# Altium footprint library footprints.PcbLib: 160 footprints (part 10 of 10)
Each footprint in its own frame and in the unit in brackets; x right, y up, seen from the top. Pads: shape width x height; smd on the part's side, far side on the other; paste and mask are expansions set on the pad; w line width, h text height; cw(c..) or ccw(c..) is an arc to the next point about the centre after c.
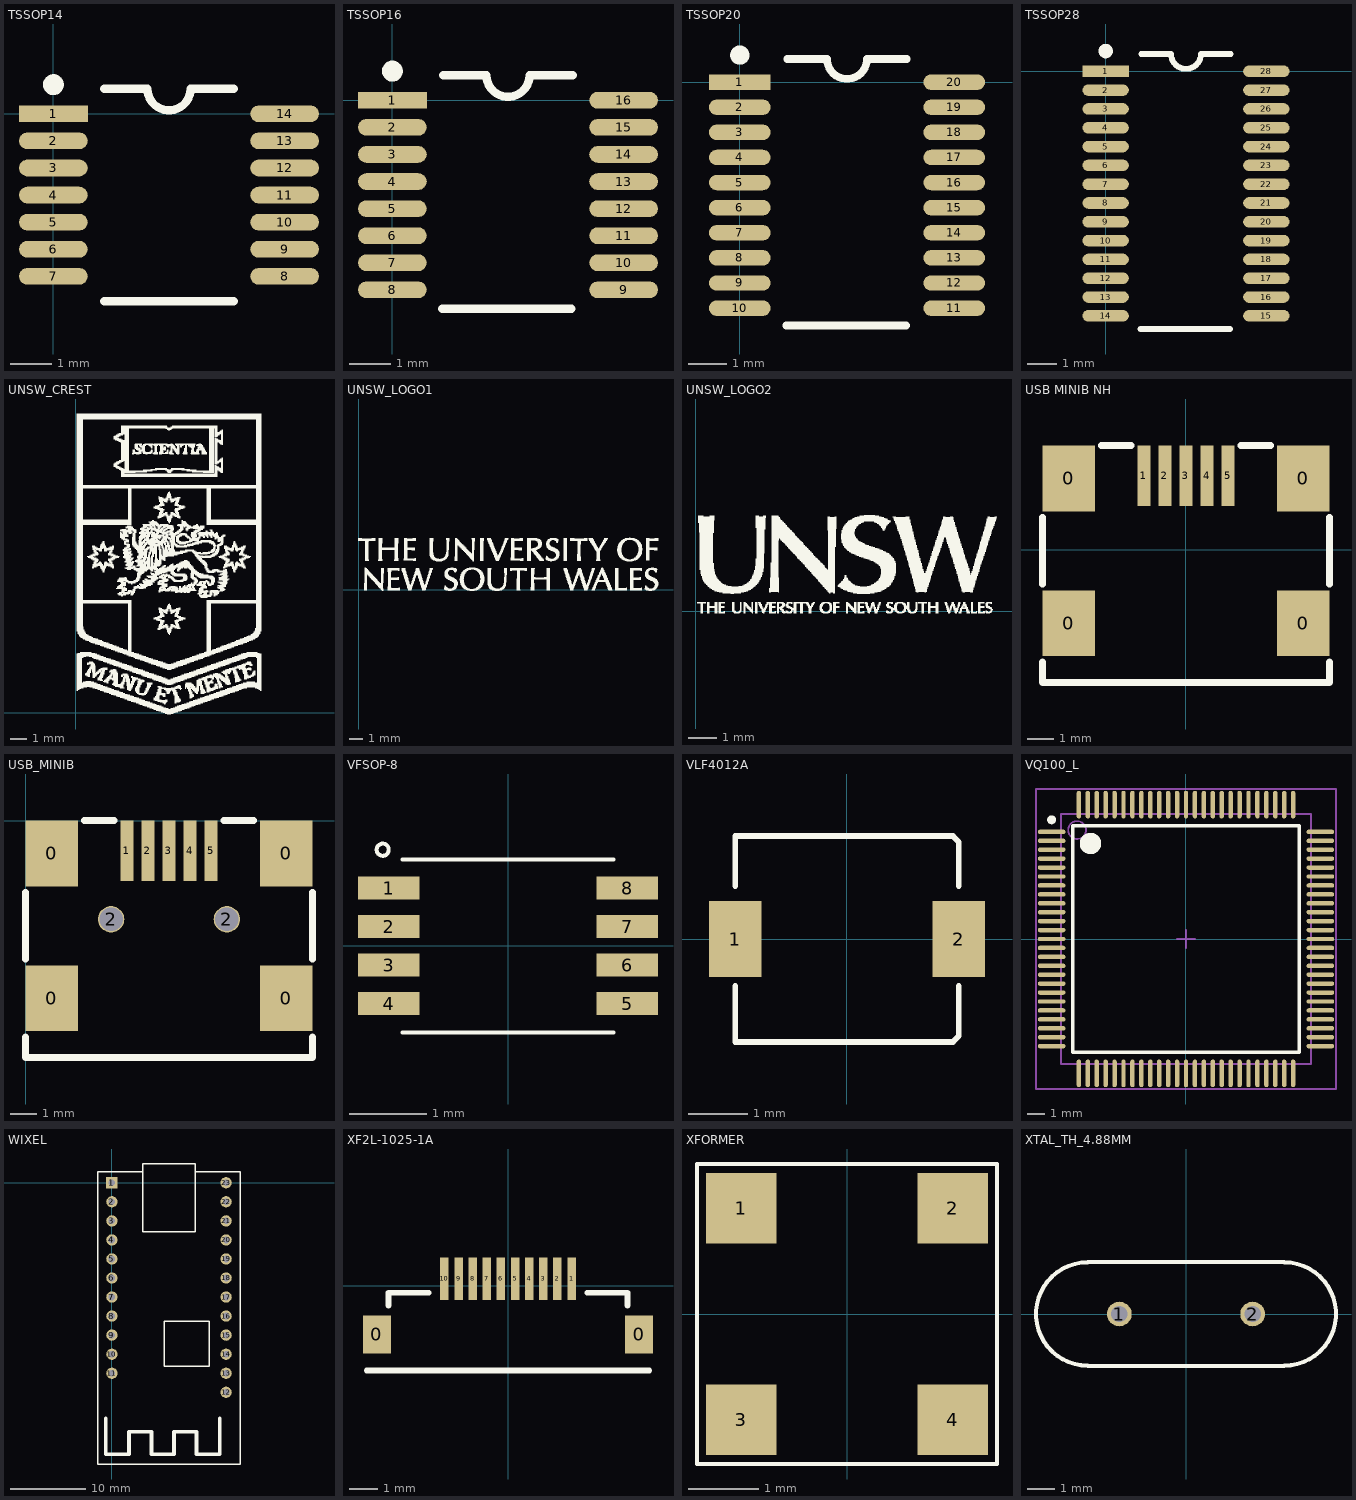
[diagram p9: the footprints below, top view; thin cyan lines are the x and y axes]

## TSSOP14 [mm]
pads (14):
  rect 1.65x0.4 smd: 1(0,0)
  oval 1.65x0.4 smd: 2(0,-0.65) 3(0,-1.3) 4(0,-1.95) 5(0,-2.6) 6(0,-3.25) 7(0,-3.9) 8(5.55,-3.9) 9(5.55,-3.25) 10(5.55,-2.6) 11(5.55,-1.95) 12(5.55,-1.3) 13(5.55,-0.65) 14(5.55,0)
Top Overlay:
  circle w0.25: c0,0.7 r0.125
  lines w0.2: 1.225,-4.5 4.325,-4.5 ; 1.225,0.6 2.258,0.6 ccw(c2.775,0.6) 3.292,0.6 4.325,0.6

## TSSOP16 [mm]
pads (16):
  rect 1.65x0.4 smd: 1(0,0)
  oval 1.65x0.4 smd: 2(0,-0.65) 3(0,-1.3) 4(0,-1.95) 5(0,-2.6) 6(0,-3.25) 7(0,-3.9) 8(0,-4.55) 9(5.55,-4.55) 10(5.55,-3.9) 11(5.55,-3.25) 12(5.55,-2.6) 13(5.55,-1.95) 14(5.55,-1.3) 15(5.55,-0.65) 16(5.55,0)
Top Overlay:
  circle w0.25: c0,0.7 r0.125
  lines w0.2: 1.2,-5 4.3,-5 ; 1.225,0.6 2.258,0.6 ccw(c2.775,0.6) 3.292,0.6 4.325,0.6

## TSSOP20 [mm]
pads (20):
  rect 1.6x0.4 smd: 1(0,0)
  oval 1.6x0.4 smd: 2(0,-0.65) 3(0,-1.3) 4(0,-1.95) 5(0,-2.6) 6(0,-3.25) 7(0,-3.9) 8(0,-4.55) 9(0,-5.2) 10(0,-5.85) 11(5.55,-5.85) 12(5.55,-5.2) 13(5.55,-4.55) 14(5.55,-3.9) 15(5.55,-3.25) 16(5.55,-2.6) 17(5.55,-1.95) 18(5.55,-1.3) 19(5.55,-0.65) 20(5.55,0)
Top Overlay:
  circle w0.25: c0,0.7 r0.125
  lines w0.2: 1.2,-6.3 4.3,-6.3 ; 1.225,0.6 2.258,0.6 ccw(c2.775,0.6) 3.292,0.6 4.325,0.6

## TSSOP28 [mm]
pads (28):
  rect 1.6x0.4 smd: 1(0,0)
  oval 1.6x0.4 smd: 2(0,-0.65) 3(0,-1.3) 4(0,-1.95) 5(0,-2.6) 6(0,-3.25) 7(0,-3.9) 8(0,-4.55) 9(0,-5.2) 10(0,-5.85) 11(0,-6.5) 12(0,-7.15) 13(0,-7.8) 14(0,-8.45) 15(5.55,-8.45) 16(5.55,-7.8) 17(5.55,-7.15) 18(5.55,-6.5) 19(5.55,-5.85) 20(5.55,-5.2) 21(5.55,-4.55) 22(5.55,-3.9) 23(5.55,-3.25) 24(5.55,-2.6) 25(5.55,-1.95) 26(5.55,-1.3) 27(5.55,-0.65) 28(5.55,0)
Top Overlay:
  circle w0.25: c0,0.7 r0.125
  lines w0.2: 1.2,-8.9 4.3,-8.9 ; 1.225,0.6 2.258,0.6 ccw(c2.775,0.6) 3.292,0.6 4.325,0.6

## UNSW_CREST [mm]
Top Overlay:
  drawing of 3157 lines, arcs and shapes, not listed

## UNSW_LOGO1 [mm]
Top Overlay:
  drawing of 2979 lines, arcs and shapes, not listed

## UNSW_LOGO2 [mm]
Top Overlay:
  drawing of 1650 lines, arcs and shapes, not listed

## USB MINIB NH [mm]
pads (9):
  rect 2x2.5 smd: 0(-4.45,-2.8) 0(-4.45,2.7) 0(4.45,-2.8) 0(4.45,2.7)
  rect 0.5x2.3 smd: 1(-1.6,2.8) 2(-0.8,2.8) 3(0,2.8) 4(0.8,2.8) 5(1.6,2.8)
Top Overlay:
  lines w0.254: -5.45,-4.275 -5.45,-5.05 5.45,-5.05 5.45,-4.275 ; -5.45,-1.325 -5.45,1.225 ; -3.225,3.95 -2.075,3.95 ; 2.075,3.95 3.225,3.95 ; 5.45,-1.325 5.45,1.225

## USB_MINIB [mm] "USB_MINIB PCB Connector"
height 4
pads (11):
  rect 2x2.5 smd: 0(1,-6.75) 0(1,-1.25) 0(9.9,-6.75) 0(9.9,-1.25)
  rect 0.5x2.3 smd: 1(3.85,-1.15) 2(4.65,-1.15) 3(5.45,-1.15) 4(6.25,-1.15) 5(7.05,-1.15)
  round 1 hole 0.9: 2(3.25,-3.75) 2(7.65,-3.75)
Top Overlay:
  lines w0.254: 0,-8.225 0,-9 10.9,-9 10.9,-8.225 ; 0,-5.275 0,-2.725 ; 2.225,0 3.375,0 ; 7.525,0 8.675,0 ; 10.9,-5.275 10.9,-2.725

## VFSOP-8 [mm]
pads (8):
  rect 0.8x0.3 smd mask+0.051: 1(-1.55,0.75) 2(-1.55,0.25) 3(-1.55,-0.25) 4(-1.55,-0.75) 5(1.55,-0.75) 6(1.55,-0.25) 7(1.55,0.25) 8(1.55,0.75)
Top Overlay:
  circle w0.051: c-1.629,1.25 r0.079
  lines w0.051: -1.375,-1.125 1.375,-1.125 ; -1.375,1.125 1.375,1.125
3D body: height 0.9, standoff 0, extent -1.553,-1 1.554,1

## VLF4012A [mm]
pads (2):
  rect 0.9x1.3 smd: 1(-1.9,0) 2(1.9,0)
Top Overlay:
  lines w0.1: -1.9,-0.8 -1.9,-1.75 1.8,-1.75 1.9,-1.65 1.9,-0.8 ; -1.9,0.9 -1.9,1.75 1.8,1.75 1.9,1.65 1.9,0.9

## VQ100_L [mm]
pads (100):
  oval 1.55x0.25 smd: 1(-7.525,6) 2(-7.525,5.5) 3(-7.525,5) 4(-7.525,4.5) 5(-7.525,4) 6(-7.525,3.5) 7(-7.525,3) 8(-7.525,2.5) 9(-7.525,2) 10(-7.525,1.5) 11(-7.525,1) 12(-7.525,0.5) 13(-7.525,0) 14(-7.525,-0.5) 15(-7.525,-1) 16(-7.525,-1.5) 17(-7.525,-2) 18(-7.525,-2.5) 19(-7.525,-3) 20(-7.525,-3.5) 21(-7.525,-4) 22(-7.525,-4.5) 23(-7.525,-5) 24(-7.525,-5.5) 25(-7.525,-6) 51(7.525,-6) 52(7.525,-5.5) 53(7.525,-5) 54(7.525,-4.5) 55(7.525,-4) 56(7.525,-3.5) 57(7.525,-3) 58(7.525,-2.5) 59(7.525,-2) 60(7.525,-1.5) 61(7.525,-1) 62(7.525,-0.5) 63(7.525,0) 64(7.525,0.5) 65(7.525,1) 66(7.525,1.5) 67(7.525,2) 68(7.525,2.5) 69(7.525,3) 70(7.525,3.5) 71(7.525,4) 72(7.525,4.5) 73(7.525,5) 74(7.525,5.5) 75(7.525,6)
  oval 0.25x1.55 smd: 26(-6,-7.525) 27(-5.5,-7.525) 28(-5,-7.525) 29(-4.5,-7.525) 30(-4,-7.525) 31(-3.5,-7.525) 32(-3,-7.525) 33(-2.5,-7.525) 34(-2,-7.525) 35(-1.5,-7.525) 36(-1,-7.525) 37(-0.5,-7.525) 38(0,-7.525) 39(0.5,-7.525) 40(1,-7.525) 41(1.5,-7.525) 42(2,-7.525) 43(2.5,-7.525) 44(3,-7.525) 45(3.5,-7.525) 46(4,-7.525) 47(4.5,-7.525) 48(5,-7.525) 49(5.5,-7.525) 50(6,-7.525) 76(6,7.525) 77(5.5,7.525) 78(5,7.525) 79(4.5,7.525) 80(4,7.525) 81(3.5,7.525) 82(3,7.525) 83(2.5,7.525) 84(2,7.525) 85(1.5,7.525) 86(1,7.525) 87(0.5,7.525) 88(0,7.525) 89(-0.5,7.525) 90(-1,7.525) 91(-1.5,7.525) 92(-2,7.525) 93(-2.5,7.525) 94(-3,7.525) 95(-3.5,7.525) 96(-4,7.525) 97(-4.5,7.525) 98(-5,7.525) 99(-5.5,7.525) 100(-6,7.525)
Top Overlay:
  circle w0.25: c-7.525,6.675 r0.125
  circle w0.6: c-5.35,5.35 r0.3
  lines w0.2: -6.35,-6.35 -6.35,6.35 6.35,6.35 6.35,-6.35 -6.35,-6.35
Mechanical 13:
  circle w0.1: c-6.1,6.1 r0.5
  lines w0.1: -7,-7 -7,7 7,7 7,-7 -7,-7
Mechanical 15:
  lines w0.1: -0.5,0 0.5,0 ; 0,-0.5 0,0.5 ; -8.4,-8.4 -8.4,8.4 8.4,8.4 8.4,-8.4 -8.4,-8.4
3D body: height 1.2, standoff 0, extent -7,-7 7,7

## WIXEL [mm]
pads (23):
  rect 1.5x1.5 hole 0.9: 1(0,0)
  round 1.5 hole 0.9: 2(0,-2.54) 3(0,-5.08) 4(0,-7.62) 5(0,-10.16) 6(0,-12.7) 7(0,-15.24) 8(0,-17.78) 9(0,-20.32) 10(0,-22.86) 11(0,-25.4) 12(15.24,-27.94) 13(15.24,-25.4) 14(15.24,-22.86) 15(15.24,-20.32) 16(15.24,-17.78) 17(15.24,-15.24) 18(15.24,-12.7) 19(15.24,-10.16) 20(15.24,-7.62) 21(15.24,-5.08) 22(15.24,-2.54) 23(15.24,0)
Top Overlay:
  lines w0.178: -1.88,1.5 -1.88,-37.5 17.12,-37.5 17.12,1.5 ; 4.12,-6.5 4.12,2.5 11.12,2.5 11.12,-6.5 4.12,-6.5 ; 7,-24.5 13,-24.5 13,-18.5 7,-18.5 7,-24.5
  lines w0.2: -1.88,1.5 4.1,1.5 ; 11.2,1.5 17.12,1.5
  lines w0.5: -0.8,-31.4 -0.8,-36.2 2.3,-36.2 2.3,-33.2 5.3,-33.2 5.3,-36.2 8.3,-36.2 8.3,-33.2 11.3,-33.2 11.3,-36.2 14.4,-36.2 14.4,-31.4

## XF2L-1025-1A [mm]
pads (12):
  rect 1x1.34 smd: 0(-4.64,-1.72) 0(4.64,-1.72)
  rect 0.3x1.5 smd: 1(2.25,0.25) 2(1.75,0.25) 3(1.25,0.25) 4(0.75,0.25) 5(0.25,0.25) 6(-0.25,0.25) 7(-0.75,0.25) 8(-1.25,0.25) 9(-1.75,0.25) 10(-2.25,0.25)
Top Overlay:
  lines w0.2: -5,-3 5,-3 ; -4.23,-0.7 -4.23,-0.25 -2.81,-0.25 ; 2.81,-0.25 4.23,-0.25 4.23,-0.7

## XFORMER [mm]
pads (4):
  rect 1x1 smd mask+0.051: 1(-1.5,1.5) 2(1.5,1.5) 3(-1.5,-1.5) 4(1.5,-1.5)
Top Overlay:
  lines w0.051: -2.125,-2.125 -2.125,2.125 2.125,2.125 2.125,-2.125 -2.125,-2.125
3D body: height 1.5, standoff 0, extent -1.984,-1.996 2,1.996

## XTAL_TH_4.88MM [mm]
height 3.68
pads (2):
  round 0.9 hole 0.6: 1(-2.44,0) 2(2.44,0)
Top Overlay:
  lines w0.152: -3.6,-1.9 0,-1.9 3.6,-1.9 ; -3.6,-1.894 cw(c-3.6,0.001) -3.6,1.896 ; -3.6,1.9 0,1.9 3.6,1.9 ; 3.6,-1.894 ccw(c3.6,0.001) 3.6,1.896